# EAGLE library part KEL8901 (library ferry_con)
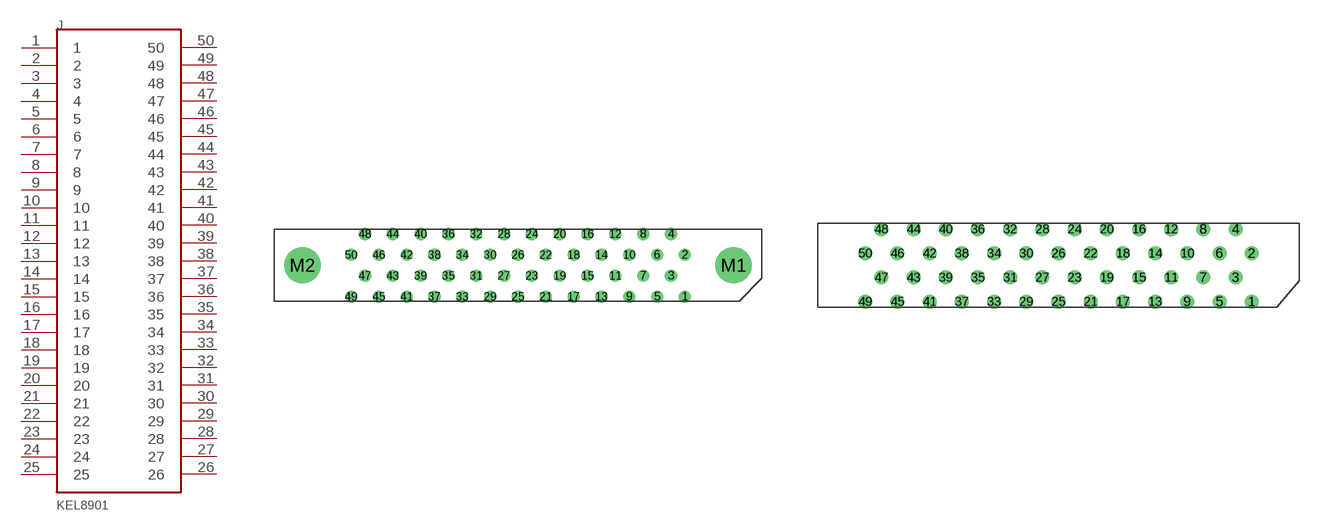
[diagram p1: symbol with the pads of KEL8900-50; footprints KEL8900-50, KEL8900-50_NARROW]

Designator prefix J

## KEL8901  [KEL8900-50]
1  1
2  2
3  3
4  4
5  5
6  6
7  7
8  8
9  9
10  10
11  11
12  12
13  13
14  14
15  15
16  16
17  17
18  18
19  19
20  20
21  21
22  22
23  23
24  24
25  25
26  26
27  27
28  28
29  29
30  30
31  31
32  32
33  33
34  34
35  35
36  36
37  37
38  38
39  39
40  40
41  41
42  42
43  43
44  44
45  45
46  46
47  47
48  48
49  49
50  50

## KEL8901N  [KEL8900-50_NARROW]
Pads as for KEL8900-50

## Footprint KEL8900-50 (pad centres in mm)
drill 0.6: 1 15.24,-2.857; 2 15.24,0.953; 3 13.97,-0.953; 4 13.97,2.857; 5 12.7,-2.857; 6 12.7,0.953; 7 11.43,-0.953; 8 11.43,2.857; 9 10.16,-2.857; 10 10.16,0.953; 11 8.89,-0.953; 12 8.89,2.857; 13 7.62,-2.857; 14 7.62,0.953; 15 6.35,-0.953; 16 6.35,2.857; 17 5.08,-2.857; 18 5.08,0.953; 19 3.81,-0.953; 20 3.81,2.857; 21 2.54,-2.857; 22 2.54,0.953; 23 1.27,-0.953; 24 1.27,2.857; 25 0,-2.857; 26 0,0.953; 27 -1.27,-0.953; 28 -1.27,2.857; 29 -2.54,-2.857; 30 -2.54,0.953; 31 -3.81,-0.953; 32 -3.81,2.857; 33 -5.08,-2.857; 34 -5.08,0.953; 35 -6.35,-0.953; 36 -6.35,2.857; 37 -7.62,-2.857; 38 -7.62,0.953; 39 -8.89,-0.953; 40 -8.89,2.857; 41 -10.16,-2.857; 42 -10.16,0.953; 43 -11.43,-0.953; 44 -11.43,2.857; 45 -12.7,-2.857; 46 -12.7,0.953; 47 -13.97,-0.953; 48 -13.97,2.857; 49 -15.24,-2.857; 50 -15.24,0.953
drill 2.3: M1 19.685,0; M2 -19.685,0

## Footprint KEL8900-50_NARROW (pad centres in mm)
drill 0.6: 1 15.24,-2.857; 2 15.24,0.953; 3 13.97,-0.953; 4 13.97,2.857; 5 12.7,-2.857; 6 12.7,0.953; 7 11.43,-0.953; 8 11.43,2.857; 9 10.16,-2.857; 10 10.16,0.953; 11 8.89,-0.953; 12 8.89,2.857; 13 7.62,-2.857; 14 7.62,0.953; 15 6.35,-0.953; 16 6.35,2.857; 17 5.08,-2.857; 18 5.08,0.953; 19 3.81,-0.953; 20 3.81,2.857; 21 2.54,-2.857; 22 2.54,0.953; 23 1.27,-0.953; 24 1.27,2.857; 25 0,-2.857; 26 0,0.953; 27 -1.27,-0.953; 28 -1.27,2.857; 29 -2.54,-2.857; 30 -2.54,0.953; 31 -3.81,-0.953; 32 -3.81,2.857; 33 -5.08,-2.857; 34 -5.08,0.953; 35 -6.35,-0.953; 36 -6.35,2.857; 37 -7.62,-2.857; 38 -7.62,0.953; 39 -8.89,-0.953; 40 -8.89,2.857; 41 -10.16,-2.857; 42 -10.16,0.953; 43 -11.43,-0.953; 44 -11.43,2.857; 45 -12.7,-2.857; 46 -12.7,0.953; 47 -13.97,-0.953; 48 -13.97,2.857; 49 -15.24,-2.857; 50 -15.24,0.953